# Altium schematic symbol library USB6B1.SchLib: 1 symbol
Pins are listed as number, name and electrical type; pins without a type are passive.

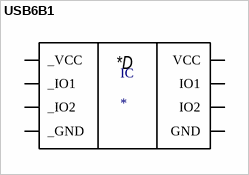
[diagram p0: symbol USB6B1]

## USB6B1
designator IC
Clamp Ipp Tvs Diode Surface Mount 8-SO; MF: STMicroelectronics; MP: USB6B1; Package: SOIC-8 STMicroelectronics; Value: *; Availability: Unavailable; SnapEDA_Link: https://www.snapeda.com/parts/USB6B1/STMicroelectronics/view-part/51146/?ref=snap; Price: None
footprint SO08
footprint Model Name (Footprint not found)
pins: 1 _VCC (power), 2 _IO1 (power), 3 _IO2 (power), 4 _GND (power), 5 GND (power), 6 IO2 (power), 7 IO1 (power), 8 VCC (power)
text: *D